# Altium schematic symbol library AccShelf.SchLib: 9 symbols
Pins are listed as number, name and electrical type; pins without a type are passive.

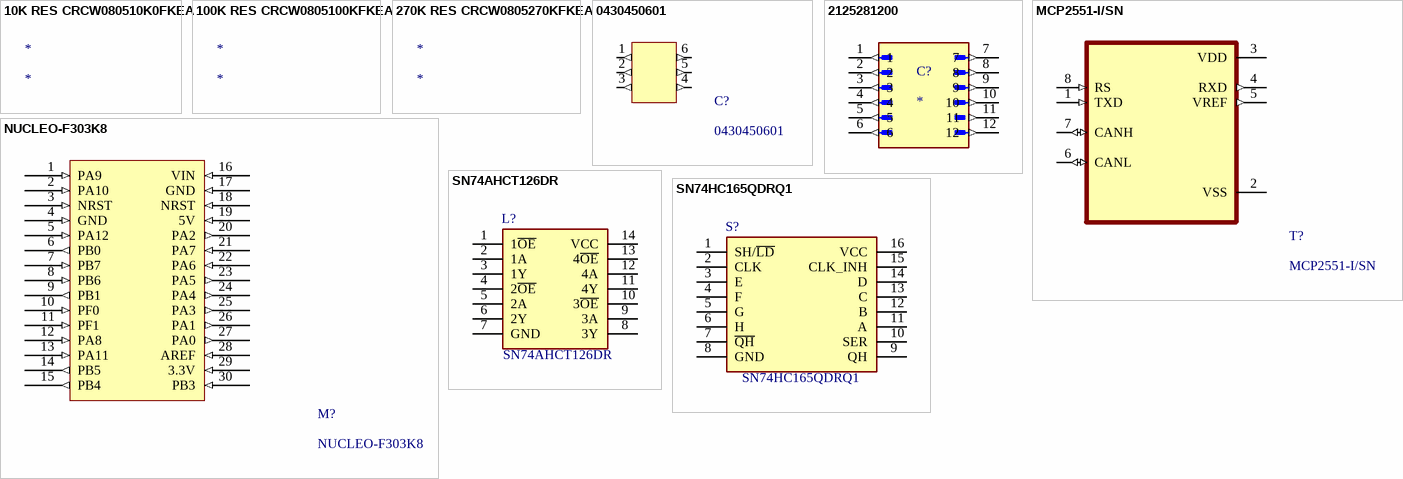
[diagram p0: symbols 10K RES CRCW080510K0FKEA to SN74HC165QDRQ1]

## 10K RES CRCW080510K0FKEA
designator *
Fixed Resistor, Metal Glaze/thick Film, 0.125W, 10000ohm, 150V, 1% +/-Tol, 100ppm/Cel, Surface Mount, 0805; Manufacturer: Vishay; Manufacturer Part Number: CRCW080510K0FKEA; Power: 125mW; Rated Temperature: 70°C; Value: 10kR; Temperature Coefficient: 100ppm/°C; Package Height: 0.45mm; Package Length: 2mm; Package Width: 1.25mm; Reference Standard: AEC-Q200; Supplier: Newark; Supplier Part Number: 24W3284; RoHS: Yes; Category: Chip SMD Resistors; Stock: 980000; Pricing: 1=0.00800, 5000=0.00800 (USD); Mounting Technology: Surface Mount; Pins: 2; Case/Package: 0805; Terminal Finish: Nickel; Package Shape: Rectangular; Min Operating Temperature: -55°C; Max Operating Temperature: 155°C; Tolerance: 1%; Resistor Type: FIXED RESISTOR; Packaging: Tape and Reel; Technology: METAL GLAZE/THICK FILM; Termination: Wraparound; Working Voltage: 150V; Construction: Chip; Package Style: SMTMeter; JESD-609 Code: e3; RoHS Compliant: Yes; Reach SVHC Compliant: Yes; ComponentLink1URL: https://datasheet.ciiva.com:443/pdfs/VipMasterIC/IC/VISH/VISH-S-A0007266705/VISH-S-A0007266705-1.pdf?src-supplier=IHS+Markit; ComponentLink1Description: https://datasheet.ciiva.com:443/pdfs/VipMasterIC/IC/VISH/VISH-S-A0007266705/VISH-S-A0007266705-1.pdf?src-supplier=IHS+Markit; ComponentLink2URL: https://datasheet.ciiva.com/46394/1720486-46394381.pdf?src-supplier=Element14; ComponentLink2Description: https://datasheet.ciiva.com/46394/1720486-46394381.pdf?src-supplier=Element14; ComponentLink3URL: https://datasheet.ciiva.com/16719/70201119-16719082.pdf?src-supplier=Allied+Electronics; ComponentLink3Description: https://datasheet.ciiva.com/16719/70201119-16719082.pdf?src-supplier=Allied+Electronics; ComponentLink4URL: https://datasheet.ciiva.com/16755/70201119-16755389.pdf?src-supplier=Allied+Electronics; ComponentLink4Description: https://datasheet.ciiva.com/16755/70201119-16755389.pdf?src-supplier=Allied+Electronics; ComponentLink5URL: https://datasheet.ciiva.com/5547/dcrcwe3-109170-5547559.pdf?src-supplier=Mouser; ComponentLink5Description: https://datasheet.ciiva.com/5547/dcrcwe3-109170-5547559.pdf?src-supplier=Mouser

## 100K RES CRCW0805100KFKEA
designator *
Fixed Resistor, Metal Glaze/thick Film, 0.125W, 100000ohm, 150V, 1% +/-Tol, 100ppm/Cel, Surface Mount, 0805; Manufacturer: Vishay; Manufacturer Part Number: CRCW0805100KFKEA; Power: 125mW; Rated Temperature: 70°C; Value: 100kR; Temperature Coefficient: 100ppm/°C; Package Height: 0.45mm; Package Length: 2mm; Package Width: 1.25mm; Reference Standard: AEC-Q200; Supplier: Newark; Supplier Part Number: 61M5435; RoHS: Yes; Category: Chip SMD Resistors; Stock: 40610; Pricing: 1=0.18000, 10=0.06800, 25=0.05600, 50=0.04400, 100=0.03200, 250=0.02800 (USD); Mounting Technology: Surface Mount; Pins: 2; Case/Package: 0805; Package Shape: Rectangular; Terminal Finish: Nickel; Min Operating Temperature: -55°C; Max Operating Temperature: 155°C; Tolerance: 1%; Resistor Type: FIXED RESISTOR; Packaging: Tape and Reel; Technology: METAL GLAZE/THICK FILM; Termination: Wraparound; Working Voltage: 150V; Construction: Chip; Package Style: SMTMeter; JESD-609 Code: e3; RoHS Compliant: Yes; Reach SVHC Compliant: Yes; ComponentLink1URL: https://datasheet.ciiva.com:443/pdfs/VipMasterIC/IC/VISH/VISH-S-A0007266705/VISH-S-A0007266705-1.pdf?src-supplier=IHS+Markit; ComponentLink1Description: https://datasheet.ciiva.com:443/pdfs/VipMasterIC/IC/VISH/VISH-S-A0007266705/VISH-S-A0007266705-1.pdf?src-supplier=IHS+Markit

## 270K RES CRCW0805270KFKEA
designator *
Fixed Resistor, Metal Glaze/thick Film, 0.125W, 270000ohm, 150V, 1% +/-Tol, 100ppm/Cel, Surface Mount, 0805; Manufacturer: Vishay; Manufacturer Part Number: CRCW0805270KFKEA; Power: 125mW; Value: 270kR; Temperature Coefficient: 100ppm/°C; Rated Temperature: 70°C; Package Height: 0.45mm; Package Length: 2mm; Package Width: 1.25mm; Reference Standard: AEC-Q200; Supplier: Mouser; Supplier Part Number: 71-CRCW0805270KFKEA; RoHS: Yes; Category: Chip SMD Resistors; Stock: 1570; Pricing: 1=0.13000, 10=0.06800, 50=0.06800, 100=0.02800, 1000=0.01300, 2500=0.01100, 5000=0.00800, 10000=0.00800 (USD); Mounting Technology: Surface Mount; Pins: 2; Case/Package: 0805; Terminal Finish: Nickel; Package Shape: Rectangular; Min Operating Temperature: -55°C; Max Operating Temperature: 155°C; Tolerance: 1%; Resistor Type: FIXED RESISTOR; Construction: Chip; Package Style: SMTMeter; Packaging: Tape and Reel; Technology: METAL GLAZE/THICK FILM; Working Voltage: 150V; JESD-609 Code: e3; Termination: Wraparound; Reach SVHC Compliant: Yes; RoHS Compliant: Yes; ComponentLink1URL: https://datasheet.ciiva.com:443/pdfs/VipMasterIC/IC/VISH/VISH-S-A0007266705/VISH-S-A0007266705-1.pdf?src-supplier=IHS+Markit; ComponentLink1Description: https://datasheet.ciiva.com:443/pdfs/VipMasterIC/IC/VISH/VISH-S-A0007266705/VISH-S-A0007266705-1.pdf?src-supplier=IHS+Markit; ComponentLink2URL: https://datasheet.ciiva.com/11810/0900766b80d98b26-11810808.pdf?src-supplier=Rs; ComponentLink2Description: https://datasheet.ciiva.com/11810/0900766b80d98b26-11810808.pdf?src-supplier=Rs; ComponentLink3URL: https://datasheet.ciiva.com/8951/dcrcwe3-8951301.pdf?src-supplier=Avnet; ComponentLink3Description: https://datasheet.ciiva.com/8951/dcrcwe3-8951301.pdf?src-supplier=Avnet; ComponentLink4URL: https://datasheet.ciiva.com/8951/dcrcwe3-8951382.pdf?src-supplier=Avnet; ComponentLink4Description: https://datasheet.ciiva.com/8951/dcrcwe3-8951382.pdf?src-supplier=Avnet; ComponentLink5URL: https://datasheet.ciiva.com/16770/70201119-16770556.pdf?src-supplier=Allied+Electronics; ComponentLink5Description: https://datasheet.ciiva.com/16770/70201119-16770556.pdf?src-supplier=Allied+Electronics; ComponentLink6URL: https://datasheet.ciiva.com/7149/1824995-7149734.pdf?src-supplier=Newark; ComponentLink6Description: https://datasheet.ciiva.com/7149/1824995-7149734.pdf?src-supplier=Newark; ComponentLink7URL: https://datasheet.ciiva.com/7674/1697337-7674117.pdf?src-supplier=Element14; ComponentLink7Description: https://datasheet.ciiva.com/7674/1697337-7674117.pdf?src-supplier=Element14; ComponentLink8URL: https://datasheet.ciiva.com/7674/1533075-7674220.pdf?src-supplier=Element14; ComponentLink8Description: https://datasheet.ciiva.com/7674/1533075-7674220.pdf?src-supplier=Element14; ComponentLink9URL: https://datasheet.ciiva.com/16435/dcrcwe3-16435927.pdf?src-supplier=Future+Electronics; ComponentLink9Description: https://datasheet.ciiva.com/16435/dcrcwe3-16435927.pdf?src-supplier=Future+Electronics

## 0430450601
designator C?
Rectangular Power Connector, 6 Contact(s), Male, Solder Terminal, Receptacle; Manufacturer: Sullins; Manufacturer Part Number: PPPC032LJBN-RC; Color: Black; Number of Positions: 6; Connector Type: Header; Pitch: 0.1inch; Option: General Purpose; Filter Feature: No; Mating Information: MULTIPLE MATING PARTS AVAILABLE; Board Mounting Option: PEG; Contact Resistance: 10mR; Contact Style: SQ PIN-SKT; Dielectric Withstanding Voltage (AC): 1.5kV; Durability: 30Cycles; Insertion Force-Max: 11.5648N; Insulation Resistance: 1GR; Number Of Connectors: 1; Number of Rows Loaded: 2; Withdrawl Force-Min: 3.0024N; Polarization Key: POLARIZED HOUSING; Rated Current (Signal): 5A; Body Breadth: 0.345inch; Body Depth: 0.48inch; Body Length: 0.498inch; Mounting Option 1: POLARIZED LCK; Plating Thickness: 15uin; Mating Contact Pitch: 0.118inch; Mounting Option 2: LOCKING; PCB Contact Row Spacing: 2.9972mm; Reference Standard: UL; Reliability: COMMERCIAL; Supplier: Digi-Key; Supplier Part Number: S5556-ND; RoHS: Yes; Category: Connectors; Stock: 1878; Pricing: 1=0.87000, 10=0.73600, 100=0.66130, 500=0.54108, 1000=0.48096, 5000=0.43420 (USD); Mounting Technology: Through Hole; Contact Plating: Gold; Contact Material: Bronze; Housing Color: Black; Housing Material: Plastic; Package Quantity: 1000; Number of Rows: 2; Packaging: Bulk; Termination: Solder; Contact Type: Female Socket; Length: 8.12mm; Width: 8.5mm; Height: 5mm; Row Spacing: 0.1inch; Lead Free: Lead Free; RoHS Compliant: Yes; ComponentLink1URL: https://drawings-pdf.s3.amazonaws.com/10494.pdf?src-supplier=Digi-Key; ComponentLink1Description: https://drawings-pdf.s3.amazonaws.com/10494.pdf?src-supplier=Digi-Key; ComponentLink2URL: http://www.farnell.com/datasheets/2696385.pdf?src-supplier=Farnell; ComponentLink2Description: http://www.farnell.com/datasheets/2696385.pdf?src-supplier=Farnell; ComponentLink3URL: http://www.farnell.com/datasheets/2696385.pdf?src-supplier=Newark; ComponentLink3Description: http://www.farnell.com/datasheets/2696385.pdf?src-supplier=Newark; ComponentLink4URL: http://www.farnell.com/datasheets/2696385.pdf?src-supplier=Element14; ComponentLink4Description: http://www.farnell.com/datasheets/2696385.pdf?src-supplier=Element14; Contact Finish - Mating: MATTE TIN; Contact Finish - Termination: Matte Tin (Sn) - with Nickel (Ni) barrier; Insulation Color: Black; Insulation Material: Polymer; Shell Material: Polymer; Min Operating Temperature: -40°C; Max Operating Temperature: 105°C; JESD-609 Code: e3; Contact Gender: Male; Mixed Contacts: No; Mounting Style: RIGHT ANGLE; Number of Contacts: 6; Body/Shell Style: RECEPTACLE; Empty Shell: No; Contact Pattern: RECTANGULAR; Number Of PCB Rows: 2; PCB Contact Pattern: RECTANGULAR; Terminal Length: 0.125inch; Terminal Pitch: 2.9972mm; Mating Contact Row Spacing: 0.118inch; Flammability Rating: UL94 V-0; DIN Conformance: No; IEC Conformance: No; MIL Conformance: No; Reach SVHC Compliant: Yes; ComponentLink5URL: https://datasheet.ciiva.com:443/pdfs/VipMasterIC/IC/MOLE/MOLE-S-A0003536766/MOLE-S-A0003536766-1.pdf?src-supplier=IHS+Markit; ComponentLink5Description: https://datasheet.ciiva.com:443/pdfs/VipMasterIC/IC/MOLE/MOLE-S-A0003536766/MOLE-S-A0003536766-1.pdf?src-supplier=IHS+Markit
footprint 6 Pin Dual Connector
pins: 1 (out), 2 (out), 3 (out), 4 (out), 5 (out), 6 (out)

## 2125281200
designator C?
Conn Micro-Fit Power HDR 12 POS 3mm Solder RA Through Hole 12 Terminal Single Port Tray; Manufacturer: Molex; Manufacturer Part Number: 212528-1200; MP: 2125281200; MF: {'manufacturer': u'Molex'}; Value: *; Availability: Unavailable; Price: None; Package: None; Supplier: Mouser; Supplier Part Number: 538-212528-1200; RoHS: No; Category: Headers and Wire Housings; Stock: 1070; Pricing: 1=3.35000, 10=2.96000, 50=2.96000, 100=2.96000, 1000=2.28000, 10000=1.94000 (USD); ComponentLink1URL: http://datasheet.octopart.com/2125281200-Molex-datasheet-147959482.pdf?src-supplier=Rs; ComponentLink1Description: http://datasheet.octopart.com/2125281200-Molex-datasheet-147959482.pdf?src-supplier=Rs
footprint 12 Pin Dual Inline Connector
pins: 1 (out), 2 (out), 3 (out), 4 (out), 5 (out), 6 (out), 7 (out), 8 (out), 9 (out), 10 (out), 11 (out), 12 (out)

## MCP2551-I/SN
designator T?
CAN Transceiver, 1-Trnsvr, PDSO8; Manufacturer: Microchip; Number of Terminals/Pins: 8; Package Body Material: Plastic; Max Supply Voltage: 5.5V; Min Supply Voltage: 4.5V; Data Rate: 1Mbps; Operating Supply Voltage: 5V; Nominal Supply Current: 75mA; Interface: Serial,CAN; Number of Transceivers: 1; Slew Rate: 8.5V/µs; Time @ Peak Reflow Temperature-Max (s): 40s; Package Equivalence Code: SOP8,.25; Telecom IC Type: INTERFACE CIRCUIT; Qualification Status: Not Qualified; Package: None; MP: MCP2551-I/SN; Price: None; Availability: Unavailable; Value: *; Supplier: Newark; Supplier Part Number: 69K7604; Manufacturer Part Number: MCP2551-I/SN; RoHS: Yes; Category: Interface ICs; Stock: 47560; Pricing: 1=1.37000, 10=1.32000, 25=1.26000, 50=1.26000, 100=1.25000 (USD); Mounting Technology: Surface Mount; Case/Package: SOIC; Pins: 8; Contact Plating: Tin,Matte; Package Shape: Rectangular; Terminal Finish: Tin; Min Operating Temperature: -40°C; Max Operating Temperature: 85°C; Packaging: Rail/Tube; Package Quantity: 100; Supply Current: 75mA; Number of Transmit Buffers: 1; Number of Receive Buffers: 1; Max Supply Current: 75mA; Number of Drivers: 1; Number of Receivers: 1; Logic Function: Transceiver; Channels: 1; Nominal Supply Voltage: 5.5V; JESD-30 Code: R-PDSO-G8; Moisture Sensitivity Level: 1; Peak Reflow Temperature (Cel): 260°C; Surface Mount: Yes; Terminal Form: Gull Wing; Terminal Position: DUAL; Length: 4.9mm; Width: 3.9mm; Height: 1.25mm; Radiation Hardening: No; Reach SVHC Compliant: Yes; RoHS Compliant: Yes; Lead Free: Lead Free; Temperature Grade: INDUSTRIAL; ComponentLink1URL: https://datasheet.ciiva.com/27056/2040583-27056423.pdf?src-supplier=Jameco; ComponentLink1Description: https://datasheet.ciiva.com/27056/2040583-27056423.pdf?src-supplier=Jameco; ComponentLink2URL: https://datasheet.ciiva.com/8084/jp011797-8084592.pdf?src-supplier=Avnet; ComponentLink2Description: https://datasheet.ciiva.com/8084/jp011797-8084592.pdf?src-supplier=Avnet; ComponentLink3URL: https://datasheet.ciiva.com/14152/eb644223-644224-e-14152540.pdf?src-supplier=Distrelec; ComponentLink3Description: https://datasheet.ciiva.com/14152/eb644223-644224-e-14152540.pdf?src-supplier=Distrelec; ComponentLink4URL: https://datasheet.ciiva.com/1495/21667f-1495089.pdf?src-supplier=Element14; ComponentLink4Description: https://datasheet.ciiva.com/1495/21667f-1495089.pdf?src-supplier=Element14; ComponentLink5URL: https://datasheet.ciiva.com/1700/21667f-1700023.pdf?src-supplier=Digi-Key; ComponentLink5Description: https://datasheet.ciiva.com/1700/21667f-1700023.pdf?src-supplier=Digi-Key; Package Style: SMALL OUTLINEMeter; JESD-609 Code: e3; Power Supplies: 5V; Technology: CMOS; Height - Seated (Max): 1.75mm; Terminal Pitch: 1.27mm; ComponentLink6URL: https://datasheet.ciiva.com:443/pdfs/VipMasterIC/IC/MCHP/MCHP-S-A0002782162/MCHP-S-A0002782162-1.pdf?src-supplier=IHS+Markit; ComponentLink6Description: https://datasheet.ciiva.com:443/pdfs/VipMasterIC/IC/MCHP/MCHP-S-A0002782162/MCHP-S-A0002782162-1.pdf?src-supplier=IHS+Markit
footprint CAN Transceiver
pins: 1 TXD (in), 2 VSS (power), 3 VDD (power), 4 RXD (out), 5 VREF (out), 6 CANL (io), 7 CANH (io), 8 RS (in)

## NUCLEO-F303K8
designator M?
Boards/Accessories; Manufacturer: STMicroelectronics; Evaluation Kit: Yes; Number of Bits: 32; Core Architecture: ARM; Supplier: Newark; Supplier Part Number: 68Y1244; Manufacturer Part Number: NUCLEO-F303K8; RoHS: No; Category: Embedded Processors and Controllers; Stock: 226; Pricing: 1=10.33000 (USD); Series: STM32F3; Reach SVHC Compliant: Yes; Lead Free: Lead Free; ComponentLink1URL: http://www.farnell.com/datasheets/2064195.pdf?src-supplier=Farnell; ComponentLink1Description: http://www.farnell.com/datasheets/2064195.pdf?src-supplier=Farnell; ComponentLink2URL: http://www.st.com/content/ccc/resource/technical/document/data_brief/b1/d8/13/d4/b0/b7/4b/6e/DM00214578.pdf/files/DM00214578.pdf/jcr:content/translations/en.DM00214578.pdf?src-supplier=Digi-Key; ComponentLink2Description: http://www.st.com/content/ccc/resource/technical/document/data_brief/b1/d8/13/d4/b0/b7/4b/6e/DM00214578.pdf/files/DM00214578.pdf/jcr:content/translations/en.DM00214578.pdf?src-supplier=Digi-Key; ComponentLink3URL: http://www.st.com/st-web-ui/static/active/en/resource/technical/document/user_manual/DM00116575.pdf?s_searchtype=keyword&src-supplier=Avnet; ComponentLink3Description: http://www.st.com/st-web-ui/static/active/en/resource/technical/document/user_manual/DM00116575.pdf?s_searchtype=keyword&src-supplier=Avnet; ComponentLink4URL: http://www.farnell.com/datasheets/1966773.pdf?src-supplier=Element14; ComponentLink4Description: http://www.farnell.com/datasheets/1966773.pdf?src-supplier=Element14; ComponentLink5URL: http://www.farnell.com/datasheets/2064195.pdf?src-supplier=Newark; ComponentLink5Description: http://www.farnell.com/datasheets/2064195.pdf?src-supplier=Newark
footprint STM Footprint
pins: 1 PA9 (in), 2 PA10 (in), 3 NRST (in), 4 GND (in), 5 PA12 (in), 6 PB0 (out), 7 PB7 (in), 8 PB6 (in), 9 PB1 (out), 10 PF0 (in), 11 PF1 (in), 12 PA8 (in), 13 PA11 (in), 14 PB5 (out), 15 PB4 (out), 16 VIN (in), 17 GND (in), 18 NRST (in), 19 5V (in), 20 PA2 (out), 21 PA7 (in), 22 PA6 (in), 23 PA5 (out), 24 PA4 (out), 25 PA3 (out), 26 PA1 (out), 27 PA0 (out), 28 AREF (in), 29 3.3V (in), 30 PB3 (in)

## SN74AHCT126DR
designator L?
Bus Driver, AHCT/VHCT/VT Series, 4-Func, 1-Bit, True Output, CMOS, PDSO14; Manufacturer_Name: Diodes Inc.; Manufacturer_Part_Number: 74AHCT125S14-13; Manufacturer: Diodes; Geometry.Height: 1.73mm; Package Body Material: Plastic; Control Type: ENABLE LOW; Load Capacitance (CL): 50pF; Max I(ol): 8mA; Number of Bits: 1; Channels: 4; Number of Ports: 2; Output Characteristics: 3-STATE; Package Equivalence Code: SOP14,.25; Power Supplies: 5V; Power Supply Current-Max (ICC): 40uA; Prop. Delay@Nom-Sup: 9.5ns; Max Supply Voltage: 5.5V; Min Supply Voltage: 4.5V; Time @ Peak Reflow Temperature-Max (s): 40s; Qualification Status: Not Qualified; Mouser Part Number: 621-74AHCT125S14-13; Mouser Price/Stock: https://www.mouser.co.uk/ProductDetail/Diodes-Incorporated/74AHCT125S14-13?qs=pYVYkI7xuRUA0d%2Fp2SGl5A%3D%3D; Arrow Part Number: 74AHCT125S14-13; Arrow Price/Stock: https://www.arrow.com/en/products/74ahct125s14-13/diodes-incorporated?region=nac; Datasheet Link: http://uk.rs-online.com/web/p/products/7988941; Supplier: Avnet; Supplier Part Number: 74AHCT125S14-13; Manufacturer Part Number: 74AHCT125S14-13; RoHS: Yes; Category: Buffers, Drivers and Transceivers; Stock: 22500; Pricing: 2500=0.06080, 5000=0.05862, 10000=0.05686, 15000=0.05520, 20000=0.05312, 25000=0.05229, 250000=0.05146 (USD); Case/Package: SOP; Pins: 14; Package Shape: Rectangular; Terminal Finish: Tin; Min Operating Temperature: -40°C; Max Operating Temperature: 125°C; JESD-609 Code: e3; Output Polarity: True; JESD-30 Code: R-PDSO-G14; Logic Type: BUS DRIVER; Moisture Sensitivity Level: 1; Package Style: SMALL OUTLINEMeter; Packaging: Tape and Reel; Peak Reflow Temperature (Cel): 260°C; Propagation Delay (tpd): 9.5ns; Nominal Supply Voltage: 5V; Surface Mount: Yes; Technology: CMOS; Terminal Form: Gull Wing; Terminal Position: DUAL; Length: 8.635mm; Width: 3.895mm; Height - Seated (Max): 1.73mm; Terminal Pitch: 1.27mm; Temperature Grade: AUTOMOTIVE; Reach SVHC Compliant: Yes; RoHS Compliant: Yes; ComponentLink1URL: https://datasheet.ciiva.com:443/pdfs/VipMasterIC/IC/DIOD/DIODS15860/DIODS15860-1.pdf?src-supplier=IHS+Markit; ComponentLink1Description: https://datasheet.ciiva.com:443/pdfs/VipMasterIC/IC/DIOD/DIODS15860/DIODS15860-1.pdf?src-supplier=IHS+Markit; ComponentLink2URL: https://datasheet.ciiva.com/25651/74ahct125-25651120.pdf?src-supplier=Digi-Key; ComponentLink2Description: https://datasheet.ciiva.com/25651/74ahct125-25651120.pdf?src-supplier=Digi-Key; ComponentLink3URL: https://datasheet.ciiva.com/29883/74ahct125-29883446.pdf?src-supplier=Avnet; ComponentLink3Description: https://datasheet.ciiva.com/29883/74ahct125-29883446.pdf?src-supplier=Avnet; ComponentLink4URL: https://www.ti.com:443/lit/ds/symlink/sn54ahct126.pdf?src-supplier=IHS+Markit; ComponentLink4Description: https://www.ti.com:443/lit/ds/symlink/sn54ahct126.pdf?src-supplier=IHS+Markit; ComponentLink5URL: https://datasheet.ciiva.com/1833/sn74ahct126-1833860.pdf?src-supplier=Digi-Key; ComponentLink5Description: https://datasheet.ciiva.com/1833/sn74ahct126-1833860.pdf?src-supplier=Digi-Key; ComponentLink6URL: https://datasheet.ciiva.com/1833/sn74ahct126-1833859.pdf?src-supplier=Digi-Key; ComponentLink6Description: https://datasheet.ciiva.com/1833/sn74ahct126-1833859.pdf?src-supplier=Digi-Key; ComponentLink7URL: https://datasheet.ciiva.com/1833/sn74ahct126-1833861.pdf?src-supplier=Digi-Key; ComponentLink7Description: https://datasheet.ciiva.com/1833/sn74ahct126-1833861.pdf?src-supplier=Digi-Key; ComponentLink8URL: https://datasheet.ciiva.com/14318/sn74ahct126-14318567.pdf?src-supplier=Avnet; ComponentLink8Description: https://datasheet.ciiva.com/14318/sn74ahct126-14318567.pdf?src-supplier=Avnet; ComponentLink9URL: https://datasheet.ciiva.com/48702/001075227-da-01-en-ic-bus-buffer-sn74ahct126dr-soic-14-tid-48702247.pdf?src-supplier=Conrad; ComponentLink9Description: https://datasheet.ciiva.com/48702/001075227-da-01-en-ic-bus-buffer-sn74ahct126dr-soic-14-tid-48702247.pdf?src-supplier=Conrad
footprint Level Shifter
pins: 1 1~{OE}, 2 1A, 3 1Y, 4 2~{OE}, 5 2A, 6 2Y, 7 GND, 8 3Y, 9 3A, 10 3~{OE}, 11 4Y, 12 4A, 13 4~{OE}, 14 VCC (power)

## SN74HC165QDRQ1
designator S?
Parallel In Serial Out, HC Series, 8-Bit, Right Direction, Complementary Output, CMOS, PDSO16; Manufacturer_Name: Texas Instruments; Geometry.Height: 1.75mm; Package Body Material: Plastic; Clock Edge Trigger Type: Positive Edge; Number of Bits: 8; Channels: 1; Package Equivalence Code: SOP16,.25; Power Supplies: 2/6V; Max Supply Voltage: 6V; Min Supply Voltage: 2V; Nominal Supply Voltage: 5V; fmax-Min: 25MHz; Propagation Delay (tpd): 225ns; Qualification Status: Not Qualified; Manufacturer_Part_Number: SN74HC165QDRQ1; Mouser Part Number: 595-SN74HC165QDRQ1; Mouser Price/Stock: https://www.mouser.co.uk/ProductDetail/Texas-Instruments/SN74HC165QDRQ1?qs=AgY10sKTvDLN6%2Fwfup846w%3D%3D; Arrow Part Number: SN74HC165QDRQ1; Arrow Price/Stock: https://www.arrow.com/en/products/sn74hc165qdrq1/texas-instruments; Datasheet Link: http://www.ti.com/lit/gpn/sn74hc165-q1; Supplier: Digi-Key; Supplier Part Number: 296-35928-1-ND; Manufacturer: Texas Instruments; Manufacturer Part Number: SN74HC165QDRQ1; RoHS: Yes; Category: Shift Registers; Pricing: 1=0.62000, 10=0.54200, 25=0.50920, 100=0.41570, 250=0.38612, 500=0.32860, 1000=0.26288 (USD); Case/Package: SOP; Pins: 16; Package Shape: Rectangular; Terminal Finish: Nickel; Min Operating Temperature: -40°C; Max Operating Temperature: 125°C; JESD-609 Code: e4; Output Polarity: Complementary; Count Direction: RIGHT; JESD-30 Code: R-PDSO-G16; Logic Type: PARALLEL IN SERIAL OUT; Moisture Sensitivity Level: 1; Package Style: SMALL OUTLINEMeter; Peak Reflow Temperature (Cel): 260°C; Surface Mount: Yes; Technology: CMOS; Terminal Form: Gull Wing; Terminal Position: DUAL; Max Frequency@Nom-Sup: 25MHz; Length: 9.9mm; Width: 3.9mm; Height - Seated (Max): 1.75mm; Terminal Pitch: 1.27mm; Temperature Grade: AUTOMOTIVE; Reach SVHC Compliant: Yes; RoHS Compliant: Yes; ComponentLink1URL: https://www.ti.com:443/lit/ds/symlink/sn74hc165-q1.pdf?src-supplier=IHS+Markit; ComponentLink1Description: https://www.ti.com:443/lit/ds/symlink/sn74hc165-q1.pdf?src-supplier=IHS+Markit; ComponentLink2URL: https://datasheet.ciiva.com/18575/sn74hc165-q1-18575046.pdf?src-supplier=Digi-Key; ComponentLink2Description: https://datasheet.ciiva.com/18575/sn74hc165-q1-18575046.pdf?src-supplier=Digi-Key; ComponentLink3URL: https://datasheet.ciiva.com/18575/sn74hc165-q1-18575047.pdf?src-supplier=Digi-Key; ComponentLink3Description: https://datasheet.ciiva.com/18575/sn74hc165-q1-18575047.pdf?src-supplier=Digi-Key; ComponentLink4URL: https://datasheet.ciiva.com/18575/sn74hc165-q1-18575048.pdf?src-supplier=Digi-Key; ComponentLink4Description: https://datasheet.ciiva.com/18575/sn74hc165-q1-18575048.pdf?src-supplier=Digi-Key; ComponentLink5URL: https://datasheet.ciiva.com/48704/001074775-da-01-en-ic-shift-regi-sn74hc165qdrq1-soic-16-tid-48704119.pdf?src-supplier=Conrad; ComponentLink5Description: https://datasheet.ciiva.com/48704/001074775-da-01-en-ic-shift-regi-sn74hc165qdrq1-soic-16-tid-48704119.pdf?src-supplier=Conrad
footprint Shift Register
pins: 1 SH/~{LD}, 2 CLK, 3 E, 4 F, 5 G, 6 H, 7 ~{QH}, 8 GND, 9 QH, 10 SER, 11 A, 12 B, 13 C, 14 D, 15 CLK_INH, 16 VCC